# EAGLE library part NES_CONNECTOR (library mylibrary)
This is a connector for the nes cartridge that uses 2.54mm (instead of 2.50). Link to the product page: https://www.digikey.ca/product-detail/en/te-connectivity-amp-connectors/5530843-8/A31721-ND/770547
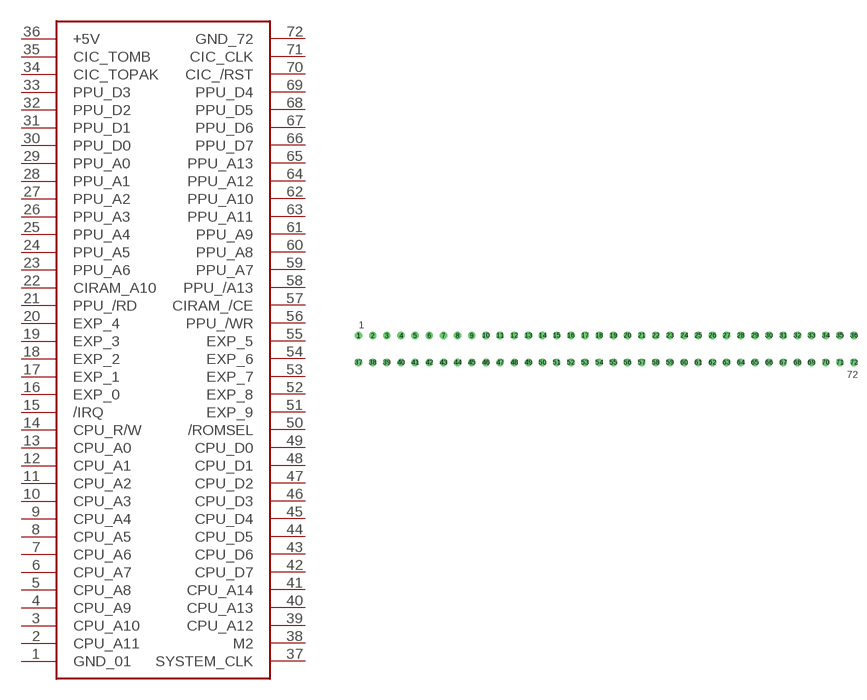
[diagram p0: symbol with the pads of NES_CONNECTOR; footprint NES_CONNECTOR]

Designator prefix IC

## NES_CONNECTOR  [NES_CONNECTOR]
1  GND_01
2  CPU_A11
3  CPU_A10
4  CPU_A9
5  CPU_A8
6  CPU_A7
7  CPU_A6
8  CPU_A5
9  CPU_A4
10  CPU_A3
11  CPU_A2
12  CPU_A1
13  CPU_A0
14  CPU_R/W
15  /IRQ
16  EXP_0
17  EXP_1
18  EXP_2
19  EXP_3
20  EXP_4
21  PPU_/RD
22  CIRAM_A10
23  PPU_A6
24  PPU_A5
25  PPU_A4
26  PPU_A3
27  PPU_A2
28  PPU_A1
29  PPU_A0
30  PPU_D0
31  PPU_D1
32  PPU_D2
33  PPU_D3
34  CIC_TOPAK
35  CIC_TOMB
36  +5V
37  SYSTEM_CLK
38  M2
39  CPU_A12
40  CPU_A13
41  CPU_A14
42  CPU_D7
43  CPU_D6
44  CPU_D5
45  CPU_D4
46  CPU_D3
47  CPU_D2
48  CPU_D1
49  CPU_D0
50  /ROMSEL
51  EXP_9
52  EXP_8
53  EXP_7
54  EXP_6
55  EXP_5
56  PPU_/WR
57  CIRAM_/CE
58  PPU_/A13
59  PPU_A7
60  PPU_A8
61  PPU_A9
62  PPU_A10
63  PPU_A11
64  PPU_A12
65  PPU_A13
66  PPU_D7
67  PPU_D6
68  PPU_D5
69  PPU_D4
70  CIC_/RST
71  CIC_CLK
72  GND_72

## Footprint NES_CONNECTOR (pad centres in mm)
drill 0.8: 1 -44.45,2.54; 2 -41.91,2.54; 3 -39.37,2.54; 4 -36.83,2.54; 5 -34.29,2.54; 6 -31.75,2.54; 7 -29.21,2.54; 8 -26.67,2.54; 9 -24.13,2.54; 10 -21.59,2.54; 11 -19.05,2.54; 12 -16.51,2.54; 13 -13.97,2.54; 14 -11.43,2.54; 15 -8.89,2.54; 16 -6.35,2.54; 17 -3.81,2.54; 18 -1.27,2.54; 19 1.27,2.54; 20 3.81,2.54; 21 6.35,2.54; 22 8.89,2.54; 23 11.43,2.54; 24 13.97,2.54; 25 16.51,2.54; 26 19.05,2.54; 27 21.59,2.54; 28 24.13,2.54; 29 26.67,2.54; 30 29.21,2.54; 31 31.75,2.54; 32 34.29,2.54; 33 36.83,2.54; 34 39.37,2.54; 35 41.91,2.54; 36 44.45,2.54; 37 -44.45,-2.311; 38 -41.91,-2.311; 39 -39.37,-2.311; 40 -36.83,-2.311; 41 -34.29,-2.311; 42 -31.75,-2.311; 43 -29.21,-2.311; 44 -26.67,-2.311; 45 -24.13,-2.311; 46 -21.59,-2.311; 47 -19.05,-2.311; 48 -16.51,-2.311; 49 -13.97,-2.311; 50 -11.43,-2.311; 51 -8.89,-2.311; 52 -6.35,-2.311; 53 -3.81,-2.311; 54 -1.27,-2.311; 55 1.27,-2.311; 56 3.81,-2.311; 57 6.35,-2.311; 58 8.89,-2.311; 59 11.43,-2.311; 60 13.97,-2.311; 61 16.51,-2.311; 62 19.05,-2.311; 63 21.59,-2.311; 64 24.13,-2.311; 65 26.67,-2.311; 66 29.21,-2.311; 67 31.75,-2.311; 68 34.29,-2.311; 69 36.83,-2.311; 70 39.37,-2.311; 71 41.91,-2.311; 72 44.45,-2.311